# Altium footprint library SKRRABE010.PcbLib: 1 footprints
Each footprint in its own frame and in the unit in brackets; x right, y up, seen from the top. Pads: shape width x height; smd on the part's side, far side on the other; paste and mask are expansions set on the pad; w line width, h text height; cw(c..) or ccw(c..) is an arc to the next point about the centre after c.
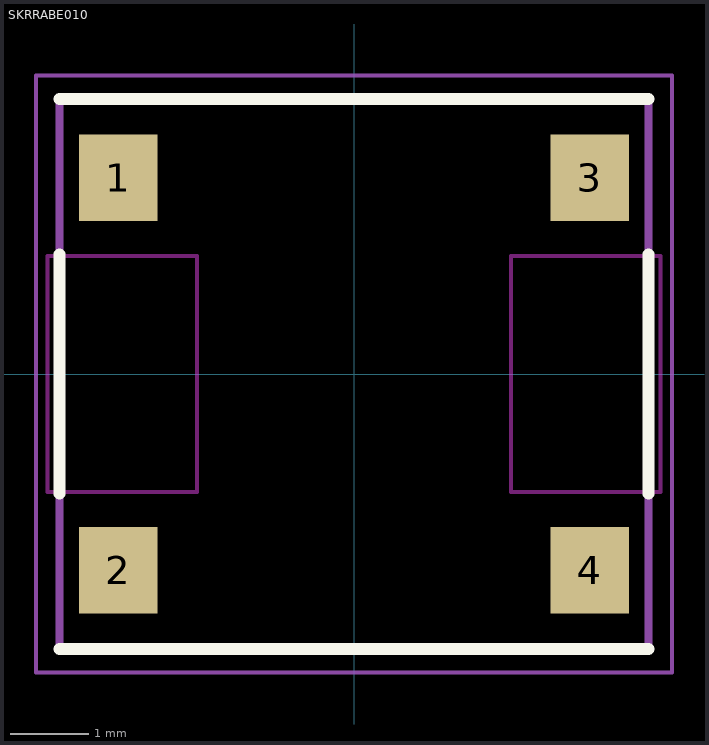
[diagram p0: the footprint, top view; thin cyan lines are the x and y axes]

## SKRRABE010 [mm]
height 0.6
pads (4):
  rect 1x1.1 smd: 1(-3,2.5) 2(-3,-2.5) 3(3,2.5) 4(3,-2.5)
Top Overlay:
  lines w0.152: -3.75,-3.5 3.75,-3.5 ; -3.75,-1.524 -3.75,1.524 ; -3.75,3.5 3.75,3.5 ; 3.75,-1.524 3.75,1.524
Keep-Out Layer:
  lines w0.05: -3.9,-1.5 -3.9,0 -3.9,1.5 -2,1.5 -2,0 -2,-1.5 -3.9,-1.5 ; 2,-1.5 2,0 2,1.5 3.9,1.5 3.9,0 3.9,-1.5 2,-1.5
Mechanical 13:
  lines w0.1: -3.75,-3.5 -3.75,3.5 3.75,3.5 3.75,-3.5 -3.75,-3.5
Mechanical 15:
  lines w0.05: -4.05,-3.8 4.05,-3.8 4.05,3.8 -4.05,3.8 -4.05,-3.8
3D body "SKRRAB.STEP": height 0.6, standoff 0, extent -3.75,-3.512 3.75,3.513